# Altium schematic symbol library Clock.SchLib: 7 symbols
Pins are listed as number, name and electrical type; pins without a type are passive.

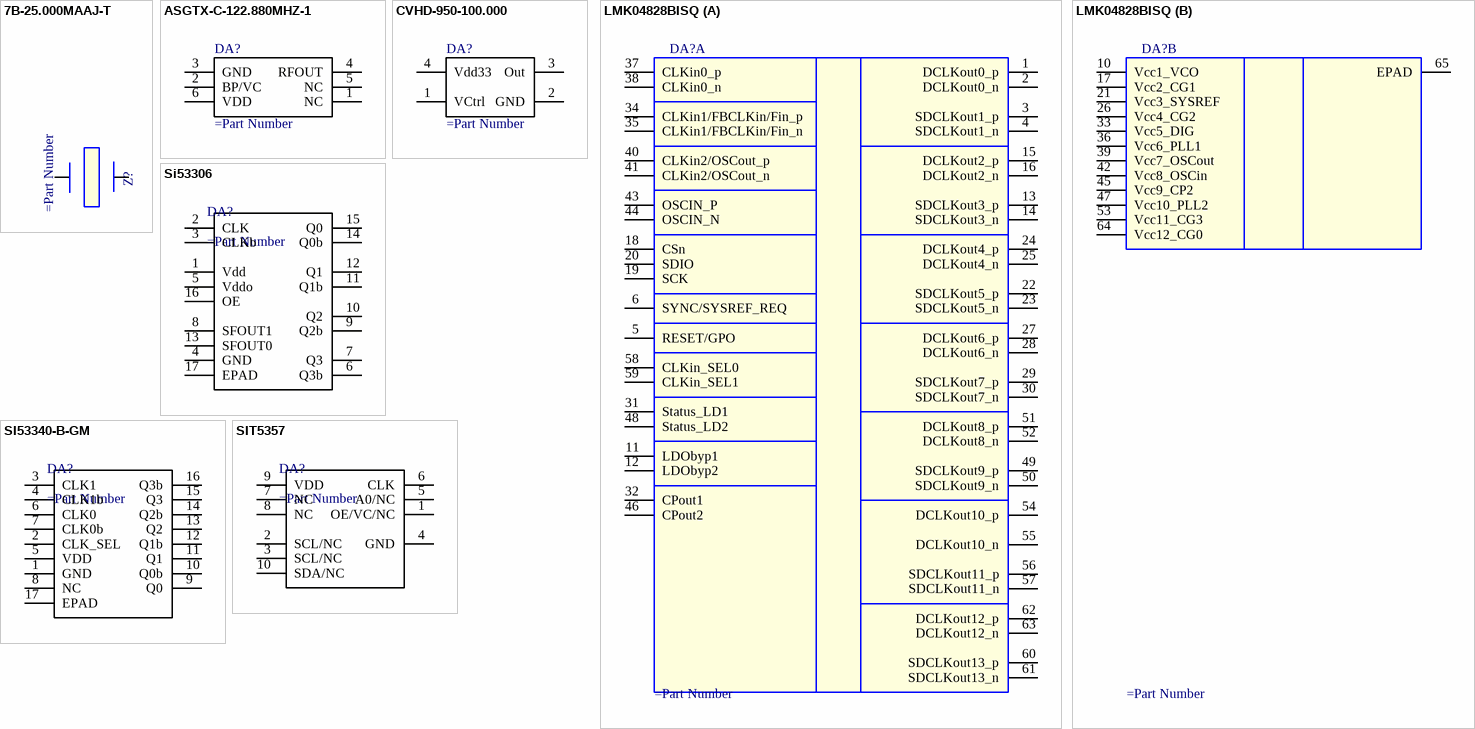
[diagram p0: symbols 7B-25.000MAAJ-T to SIT5357]

## 7B-25.000MAAJ-T
designator Z?
pins: 1, 2

## ASGTX-C-122.880MHZ-1
designator DA?
pins: 1 NC, 2 BP/VC (power), 3 GND, 4 RFOUT (power), 5 NC, 6 VDD

## CVHD-950-100.000
designator DA?
pins: 1 VCtrl, 2 GND (power), 3 Out, 4 Vdd33 (power)

## LMK04828BISQ
designator DA?
part A pins: 1 DCLKout0_p, 2 DCLKout0_n, 3 SDCLKout1_p, 4 SDCLKout1_n, 5 RESET/GPO, 6 SYNC/SYSREF_REQ, 11 LDObyp1, 12 LDObyp2, 13 SDCLKout3_p, 14 SDCLKout3_n, 15 DCLKout2_p, 16 DCLKout2_n, 18 CSn, 19 SCK, 20 SDIO, 22 SDCLKout5_p, 23 SDCLKout5_n, 24 DCLKout4_p, 25 DCLKout4_n, 27 DCLKout6_p, 28 DCLKout6_n, 29 SDCLKout7_p, 30 SDCLKout7_n, 31 Status_LD1, 32 CPout1, 34 CLKin1/FBCLKin/Fin_p, 35 CLKin1/FBCLKin/Fin_n, 37 CLKin0_p, 38 CLKin0_n, 40 CLKin2/OSCout_p, 41 CLKin2/OSCout_n, 43 OSCIN_P, 44 OSCIN_N, 46 CPout2, 48 Status_LD2, 49 SDCLKout9_p, 50 SDCLKout9_n, 51 DCLKout8_p, 52 DCLKout8_n, 54 DCLKout10_p, 55 DCLKout10_n, 56 SDCLKout11_p, 57 SDCLKout11_n, 58 CLKin_SEL0, 59 CLKin_SEL1, 60 SDCLKout13_p, 61 SDCLKout13_n, 62 DCLKout12_p, 63 DCLKout12_n
part B pins: 10 Vcc1_VCO, 17 Vcc2_CG1, 21 Vcc3_SYSREF, 26 Vcc4_CG2, 33 Vcc5_DIG, 36 Vcc6_PLL1, 39 Vcc7_OSCout, 42 Vcc8_OSCin, 45 Vcc9_CP2, 47 Vcc10_PLL2, 53 Vcc11_CG3, 64 Vcc12_CG0, 65 EPAD

## Si53306
designator DA?
pins: 1 Vdd, 2 CLK, 3 CLKb, 4 GND, 5 Vddo, 6 Q3b, 7 Q3, 8 SFOUT1, 9 Q2b, 10 Q2, 11 Q1b, 12 Q1, 13 SFOUT0, 14 Q0b, 15 Q0, 16 OE, 17 EPAD

## SI53340-B-GM
designator DA?
pins: 1 GND, 2 CLK_SEL, 3 CLK1, 4 CLK1b, 5 VDD, 6 CLK0, 7 CLK0b, 8 NC, 9 Q0, 10 Q0b, 11 Q1, 12 Q1b, 13 Q2, 14 Q2b, 15 Q3, 16 Q3b, 17 EPAD

## SIT5357
designator DA?
pins: 1 OE/VC/NC, 2 SCL/NC, 3 SCL/NC, 4 GND, 5 A0/NC, 6 CLK, 7 NC, 8 NC, 9 VDD, 10 SDA/NC